# EAGLE library part BTS716G-NEW (library infineon)
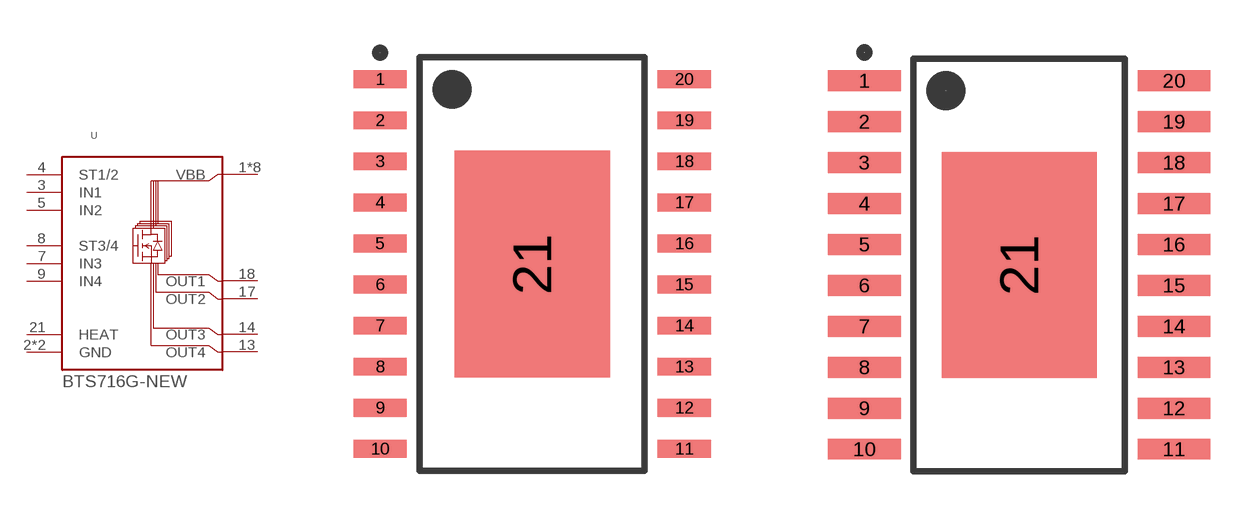
[diagram p6: symbol with the pads of INF-PG-DSO-20-30_L_1PRIMARY; footprints INF-PG-DSO-20-30_L_1PRIMARY, INF-PG-DSO-20-30_M_1PRIMARY]

Designator prefix -

## BTS716G-NEWL  [INF-PG-DSO-20-30_L_1PRIMARY]
1  VBB
2  GND
3  IN1
4  ST1/2
5  IN2
6  GND
7  IN3
8  ST3/4
9  IN4
10  VBB
11  VBB
12  VBB
13  OUT4
14  OUT3
15  VBB
16  VBB
17  OUT2
18  OUT1
19  VBB
20  VBB
21  HEAT

## BTS716G-NEWM  [INF-PG-DSO-20-30_M_1PRIMARY]
Pads as for INF-PG-DSO-20-30_L_1PRIMARY

## BTS716G-NEWN  [INF-PG-DSO-20-30_N_1PRIMARY]
Pads as for INF-PG-DSO-20-30_L_1PRIMARY

## Footprint INF-PG-DSO-20-30_L_1PRIMARY (pad centres in mm)
Original name INF-PG-DSO-20-30_L
smd 1.65 x 0.55: 1 -4.7,5.715; 2 -4.7,4.445; 3 -4.7,3.175; 4 -4.7,1.905; 5 -4.7,0.635; 6 -4.7,-0.635; 7 -4.7,-1.905; 8 -4.7,-3.175; 9 -4.7,-4.445; 10 -4.7,-5.715; 11 4.7,-5.715; 12 4.7,-4.445; 13 4.7,-3.175; 14 4.7,-1.905; 15 4.7,-0.635; 16 4.7,0.635; 17 4.7,1.905; 18 4.7,3.175; 19 4.7,4.445; 20 4.7,5.715
smd 4.8 x 7: 21 0,0

## Footprint INF-PG-DSO-20-30_M_1PRIMARY (pad centres in mm)
Original name INF-PG-DSO-20-30_M
smd 2.25 x 0.65: 1 -4.8,5.715; 2 -4.8,4.445; 3 -4.8,3.175; 4 -4.8,1.905; 5 -4.8,0.635; 6 -4.8,-0.635; 7 -4.8,-1.905; 8 -4.8,-3.175; 9 -4.8,-4.445; 10 -4.8,-5.715; 11 4.8,-5.715; 12 4.8,-4.445; 13 4.8,-3.175; 14 4.8,-1.905; 15 4.8,-0.635; 16 4.8,0.635; 17 4.8,1.905; 18 4.8,3.175; 19 4.8,4.445; 20 4.8,5.715
smd 4.8 x 7: 21 0,0

## Footprint INF-PG-DSO-20-30_N_1PRIMARY (pad centres in mm)
Original name INF-PG-DSO-20-30_N
smd 1.95 x 0.55: 1 -4.75,5.715; 2 -4.75,4.445; 3 -4.75,3.175; 4 -4.75,1.905; 5 -4.75,0.635; 6 -4.75,-0.635; 7 -4.75,-1.905; 8 -4.75,-3.175; 9 -4.75,-4.445; 10 -4.75,-5.715; 11 4.75,-5.715; 12 4.75,-4.445; 13 4.75,-3.175; 14 4.75,-1.905; 15 4.75,-0.635; 16 4.75,0.635; 17 4.75,1.905; 18 4.75,3.175; 19 4.75,4.445; 20 4.75,5.715
smd 4.8 x 7: 21 0,0